# Altium schematic symbol library Sch_Fuente.SchLib: 1 symbol
Pins are listed as number, name and electrical type; pins without a type are passive.

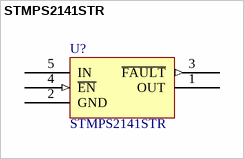
[diagram p0: symbol STMPS2141STR]

## STMPS2141STR
designator U?
Enhanced single channel power switch; Proveedor: Mouser; Encapsulado: SOT23-5L; Cod. Proveedor: STMPS2141STR; Link: *; Fabricante: *
footprint SOT23-5L
pins: 1 OUT, 2 GND, 3 ~{FAULT} (out), 4 ~{EN} (in), 5 IN